# EAGLE library part LY3200ALH (library symbols)
MEMS motion sensor: high performance ±2000 dps analog yaw-rate gyroscope
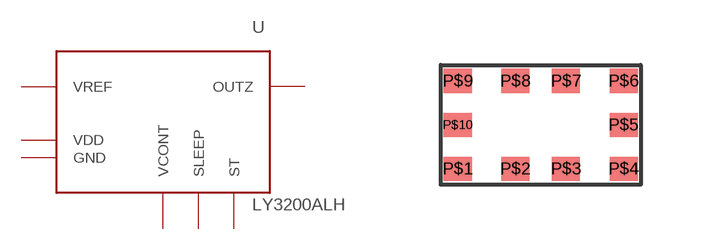
[diagram p0: symbol with the pads of LGA10; footprint LGA10]

Designator prefix -

## LY3200ALHLY3200ALH-LGA10  [LGA10]
P$1  VDD  pwr
P$2  ST  in
P$3  VCONT  in
P$4  GND  pwr
P$6  OUTZ  out
P$7  VREF  out
P$8  SLEEP  in
P$9  VDD  pwr

## Footprint LGA10 (pad centres in mm)
LGA-10 (3x5x1 mm)
smd 0.7 x 0.6: P$1 -2.075,-1.1; P$2 -0.635,-1.1; P$3 0.635,-1.1; P$4 2.075,-1.1; P$5 2.075,0; P$6 2.075,1.1; P$7 0.635,1.1; P$8 -0.635,1.1; P$9 -2.075,1.1; P$10 -2.075,0